# EAGLE library part TC2030-NL-CORTEX (library TC2030-cortex)
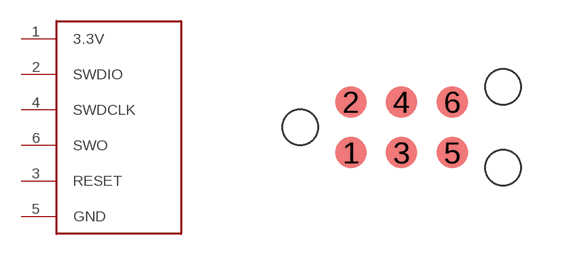
[diagram p0: symbol with the pads of TC2030-MCP-NL; footprint TC2030-MCP-NL]

Designator prefix -

## TC2030-NL-CORTEX  [TC2030-MCP-NL]
1  3.3V
2  SWDIO
3  RESET
4  SWDCLK
5  GND
6  SWO

## Footprint TC2030-MCP-NL (pad centres in mm)
TAG-CONNECT ICSP Connector Manufacturer: Tag-Connect <www.tag-connect.com> Cable for easy In-Circuit Serial Programming Original credit: ©2009 ROFA.cz - modified and updated by Robert Darlington ‹rdarlington@gmail.com› Updated: ©2014 Denis Masyukov ‹dmasyukov@gmail.com›
smd 0.787 x 0.787: 1 1.27,-0.635; 2 1.27,0.635; 3 2.54,-0.635; 4 2.54,0.635; 5 3.81,-0.635; 6 3.81,0.635
hole 0.889 at 0,0
hole 0.889 at 5.08,-1.016
hole 0.889 at 5.08,1.016